# EAGLE library part AQM0802 (library MM_LCD)
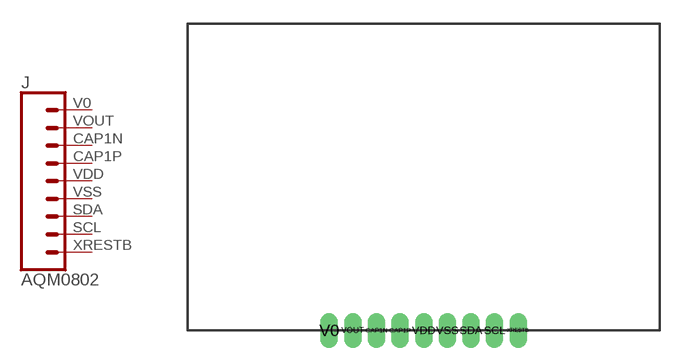
[diagram p0: symbol with the pads of AQM0802; footprint AQM0802]

Designator prefix J

## AQM0802  [AQM0802]
CAP1N  CAP1N  pas
CAP1P  CAP1P  pas
SCL  SCL  pas
SDA  SDA  pas
V0  V0  pas
VDD  VDD  pas
VOUT  VOUT  pas
VSS  VSS  pas
XRESTB  XRESTB  pas

## Footprint AQM0802 (pad centres in mm)
drill 0.6 long: CAP1N -3,0; CAP1P -1.5,0; SCL 4.5,0; SDA 3,0; V0 -6,0; VDD 0,0; VOUT -4.5,0; VSS 1.5,0; XRESTB 6,0